# Altium schematic symbol library sorour.SchLib: 2 symbols
Pins are listed as number, name and electrical type; pins without a type are passive.

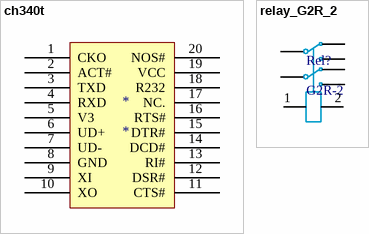
[diagram p0: symbols ch340t to relay_G2R_2]

## ch340t
designator *
footprint LSSOP65P640X145-20N (LSSOP, 20-Leads, Body 6.6x4.5mm (max), Pitch 0.65mm, IPC Medium Density)
pins: 1 CKO, 2 ACT#, 3 TXD, 4 RXD, 5 V3, 6 UD+, 7 UD-, 8 GND, 9 XI, 10 XO, 11 CTS#, 12 DSR#, 13 RI#, 14 DCD#, 15 DTR#, 16 RTS#, 17 NC., 18 R232, 19 VCC, 20 NOS#

## relay_G2R_2
designator Rel?, comment G2R-2
footprint relay_G2R_2
pins: 1, 2, 3, 4, 5, 6, 7, 8